# Altium schematic symbol library ADP7183ACPZN.SchLib: 2 symbols
Pins are listed as number, name and electrical type; pins without a type are passive.

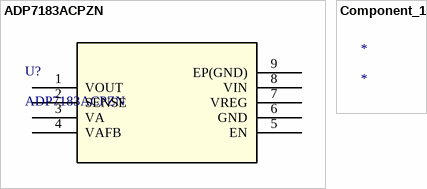
[diagram p0: symbols ADP7183ACPZN to Component_1]

## ADP7183ACPZN
designator U?
No Description Available; Mfr_Name: Analog Devices Inc; Copyright: Copyright (C) 2022 Ultra Librarian. All rights reserved.; Manufacturer_Part_Number: ADP7183ACPZN; RefDes: RefDes; Type: DEV
footprint CP-8-27_ADI
pins: 1 VOUT, 2 SENSE, 3 VA, 4 VAFB, 5 EN, 6 GND, 7 VREG, 8 VIN, 9 EP(GND)

## Component_1
designator *